# Altium schematic symbol library RES_1K_805.SchLib: 1 symbol
Pins are listed as number, name and electrical type; pins without a type are passive.

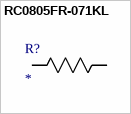
[diagram p0: symbol RC0805FR-071KL]

## RC0805FR-071KL
designator R?
No Description Available; Mfr_Name: Yageo
footprint RC0805N_YAG
pins: 1, 2